# Altium integrated library Analog Devices Switches and Multiplexers Analog Switches.IntLib: 575 symbols (part 20 of 23)
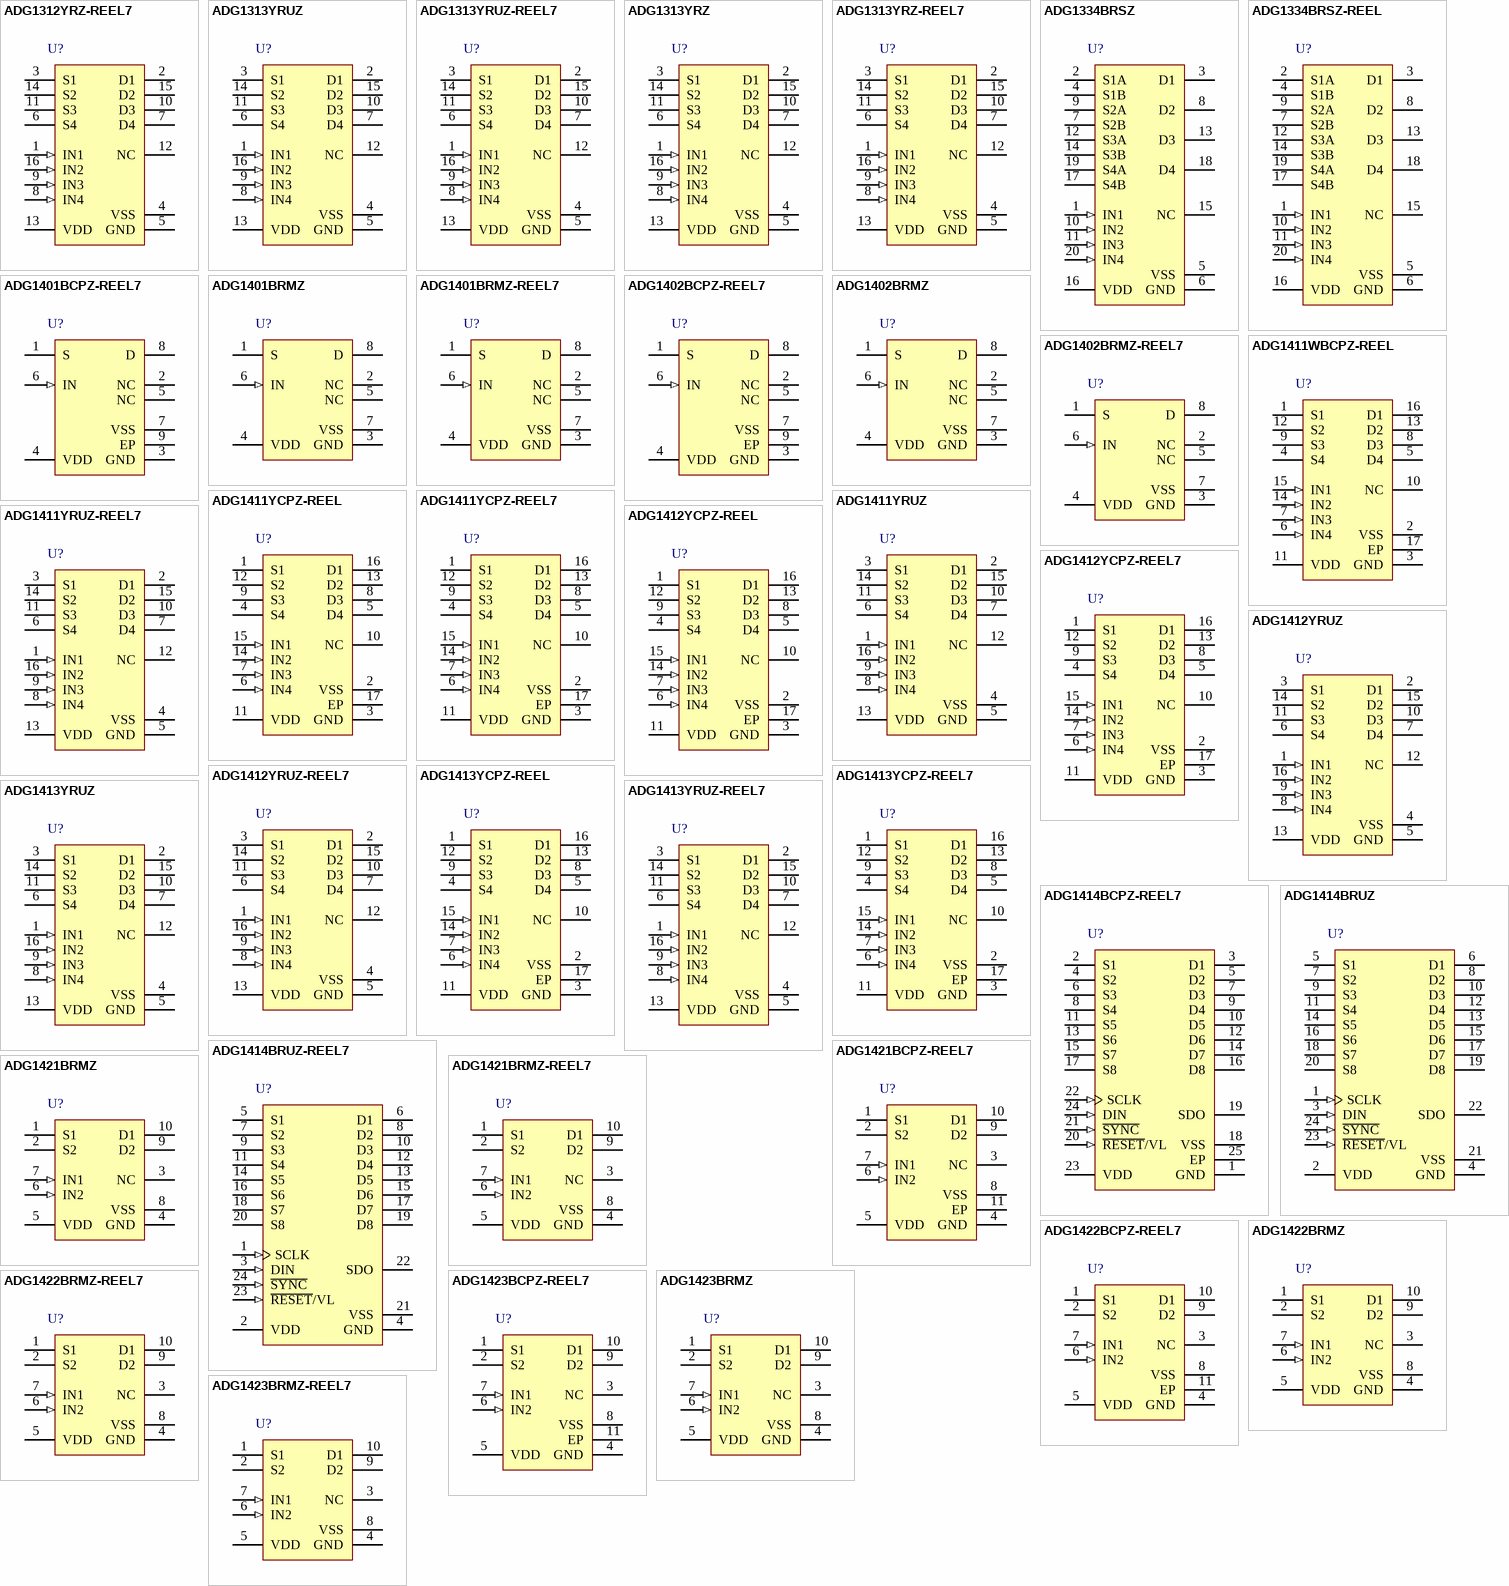
[diagram p34: symbols ADG1312YRZ-REEL7 to ADG1423BRMZ-REEL7]

## ADG1313YRUZ
designator U?
Quad SPST +/-15 V / 12 V Switches, 130 Ohm Ron, 16-pin SOP (RU-16), Tube; Manufacturer: Analog Devices; PartNumber: ADG1313YRUZ; # Sw Functions: 4; Max Neg Supply: -16.5V; Max Pos Supply: +16.5V; Ron (ohms): 130, 325; t ON: 105ns, 120ns; DatasheetVersion: Rev. A; PackageVersion: Nov-02; PackageReference: RU-16; PackageDescription: 16-Pin Thin Shrink Small Outline Package, Body 5 x 4.4 mm, Pitch 0.65 mm; Supplier 1: Digi-Key; Supplier Part Number 1: ADG1313YRUZ-ND; Supplier 2: Farnell; Supplier Part Number 2: 1274174; Supplier 3: Mouser; Supplier Part Number 3: 584-ADG1313YRUZ; Configuration: SPST; Packing: Tube; Mounting Technology: Surface Mount; Code_JEDEC: MO-153AB; ComponentLink1Description: Manufacturer URL; ComponentLink1URL: http://www.analog.com/en/index.html; ComponentLink2Description: Datasheet; ComponentLink2URL: http://www.analog.com/static/imported-files/data_sheets/ADG1311_1312_1313.pdf; ComponentLink3Description: Package Specification; ComponentLink3URL: http:/www.analog.com/static/imported-files/packages/36244347913743854010197452789RU16.pdf
footprint ADI-RU-16_N (SOP, 16-Leads, Body 5x4.4mm, Pitch 0.65mm, IPC Medium Density)
footprint ADI-RU-16_L (SOP, 16-Leads, Body 5x4.4mm, Pitch 0.65mm, IPC High Density)
footprint ADI-RU-16_M (SOP, 16-Leads, Body 5x4.4mm, Pitch 0.65mm, IPC Low Density)
pins: 1 IN1 (in) "Logic Control Input.", 2 D1 "Drain Terminal. Can be an input or output.", 3 S1 "Source Terminal. Can be an input or output.", 4 VSS (power) "Most Negative Power Supply Potential.", 5 GND (power) "Ground (0 V) Reference.", 6 S4 "Source Terminal. Can be an input or output.", 7 D4 "Drain Terminal. Can be an input or output.", 8 IN4 (in) "Logic Control Input.", 9 IN3 (in) "Logic Control Input.", 10 D3 "Drain Terminal. Can be an input or output.", 11 S3 "Source Terminal. Can be an input or output.", 12 NC "No Connection.", 13 VDD (power) "Most Positive Power Supply Potential.", 14 S2 "Source Terminal. Can be an input or output.", 15 D2 "Drain Terminal. Can be an input or output.", 16 IN2 (in) "Logic Control Input."

## ADG1313YRUZ-REEL7
designator U?
Quad SPST +/-15 V / 12 V Switches, 130 Ohm Ron, 16-pin SOP (RU-16), Reel; Manufacturer: Analog Devices; PartNumber: ADG1313YRUZ-REEL7; # Sw Functions: 4; Max Neg Supply: -16.5V; Max Pos Supply: +16.5V; Ron (ohms): 130, 325; t ON: 105ns, 120ns; DatasheetVersion: Rev. A; PackageVersion: Nov-02; PackageReference: RU-16; PackageDescription: 16-Pin Thin Shrink Small Outline Package, Body 5 x 4.4 mm, Pitch 0.65 mm; Supplier 1: Digi-Key; Supplier Part Number 1: ADG1313YRUZ-REEL7-ND; Supplier 2: Mouser; Supplier Part Number 2: 584-ADG1313YRUZ-R7; Configuration: SPST; Packing: Reel; Mounting Technology: Surface Mount; Code_JEDEC: MO-153AB; ComponentLink1Description: Manufacturer URL; ComponentLink1URL: http://www.analog.com/en/index.html; ComponentLink2Description: Datasheet; ComponentLink2URL: http://www.analog.com/static/imported-files/data_sheets/ADG1311_1312_1313.pdf; ComponentLink3Description: Package Specification; ComponentLink3URL: http:/www.analog.com/static/imported-files/packages/36244347913743854010197452789RU16.pdf
footprint ADI-RU-16_N (SOP, 16-Leads, Body 5x4.4mm, Pitch 0.65mm, IPC Medium Density)
footprint ADI-RU-16_L (SOP, 16-Leads, Body 5x4.4mm, Pitch 0.65mm, IPC High Density)
footprint ADI-RU-16_M (SOP, 16-Leads, Body 5x4.4mm, Pitch 0.65mm, IPC Low Density)
pins: 1 IN1 (in) "Logic Control Input.", 2 D1 "Drain Terminal. Can be an input or output.", 3 S1 "Source Terminal. Can be an input or output.", 4 VSS (power) "Most Negative Power Supply Potential.", 5 GND (power) "Ground (0 V) Reference.", 6 S4 "Source Terminal. Can be an input or output.", 7 D4 "Drain Terminal. Can be an input or output.", 8 IN4 (in) "Logic Control Input.", 9 IN3 (in) "Logic Control Input.", 10 D3 "Drain Terminal. Can be an input or output.", 11 S3 "Source Terminal. Can be an input or output.", 12 NC "No Connection.", 13 VDD (power) "Most Positive Power Supply Potential.", 14 S2 "Source Terminal. Can be an input or output.", 15 D2 "Drain Terminal. Can be an input or output.", 16 IN2 (in) "Logic Control Input."

## ADG1313YRZ
designator U?
Quad SPST +/-15 V / 12 V Switches, 130 Ohm Ron, 16-pin SOIC (R-16), Tube; Manufacturer: Analog Devices; PartNumber: ADG1313YRZ; # Sw Functions: 4; Max Neg Supply: -16.5V; Max Pos Supply: +16.5V; Ron (ohms): 130, 325; t ON: 105ns, 120ns; DatasheetVersion: Rev. A; PackageVersion: 060606-A, 06/2006; PackageReference: R-16; PackageDescription: 16-Pin Standard Small Outline Package, Body 9.9 x 3.9 mm, Pitch 1.27 mm; Supplier 1: Digi-Key; Supplier Part Number 1: ADG1313YRZ-ND; Supplier 2: Newark; Supplier Part Number 2: 19M0669; Supplier 3: Mouser; Supplier Part Number 3: 584-ADG1313YRZ; Configuration: SPST; Packing: Tube; Mounting Technology: Surface Mount; Code_JEDEC: MS-012-AC; ComponentLink1Description: Manufacturer URL; ComponentLink1URL: http://www.analog.com/en/index.html; ComponentLink2Description: Datasheet; ComponentLink2URL: http://www.analog.com/static/imported-files/data_sheets/ADG1311_1312_1313.pdf; ComponentLink3Description: Package Specification; ComponentLink3URL: http://www.analog.com/static/imported-files/packages/PKG_PDF/SOIC_Narrow%20(R)/R_16.pdf
footprint ADI-R-16_N (SOIC, 16-Leads, Body 9.9x3.9mm, Pitch 1.27mm, IPC Medium Density)
footprint ADI-R-16_L (SOIC, 16-Leads, Body 9.9x3.9mm, Pitch 1.27mm, IPC High Density)
footprint ADI-R-16_M (SOIC, 16-Leads, Body 9.9x3.9mm, Pitch 1.27mm, IPC Low Density)
pins: 1 IN1 (in) "Logic Control Input.", 2 D1 "Drain Terminal. Can be an input or output.", 3 S1 "Source Terminal. Can be an input or output.", 4 VSS (power) "Most Negative Power Supply Potential.", 5 GND (power) "Ground (0 V) Reference.", 6 S4 "Source Terminal. Can be an input or output.", 7 D4 "Drain Terminal. Can be an input or output.", 8 IN4 (in) "Logic Control Input.", 9 IN3 (in) "Logic Control Input.", 10 D3 "Drain Terminal. Can be an input or output.", 11 S3 "Source Terminal. Can be an input or output.", 12 NC "No Connection.", 13 VDD (power) "Most Positive Power Supply Potential.", 14 S2 "Source Terminal. Can be an input or output.", 15 D2 "Drain Terminal. Can be an input or output.", 16 IN2 (in) "Logic Control Input."

## ADG1313YRZ-REEL7
designator U?
Quad SPST +/-15 V / 12 V Switches, 130 Ohm Ron, 16-pin SOIC (R-16), Reel; Manufacturer: Analog Devices; PartNumber: ADG1313YRZ-REEL7; # Sw Functions: 4; Max Neg Supply: -16.5V; Max Pos Supply: +16.5V; Ron (ohms): 130, 325; t ON: 105ns, 120ns; DatasheetVersion: Rev. A; PackageVersion: 060606-A, 06/2006; PackageReference: R-16; PackageDescription: 16-Pin Standard Small Outline Package, Body 9.9 x 3.9 mm, Pitch 1.27 mm; Supplier 1: Digi-Key; Supplier Part Number 1: ADG1313YRZ-REEL7-ND; Supplier 2: Mouser; Supplier Part Number 2: 584-ADG1313YRZ-R7; Configuration: SPST; Packing: Reel; Mounting Technology: Surface Mount; Code_JEDEC: MS-012-AC; ComponentLink1Description: Manufacturer URL; ComponentLink1URL: http://www.analog.com/en/index.html; ComponentLink2Description: Datasheet; ComponentLink2URL: http://www.analog.com/static/imported-files/data_sheets/ADG1311_1312_1313.pdf; ComponentLink3Description: Package Specification; ComponentLink3URL: http://www.analog.com/static/imported-files/packages/PKG_PDF/SOIC_Narrow%20(R)/R_16.pdf
footprint ADI-R-16_N (SOIC, 16-Leads, Body 9.9x3.9mm, Pitch 1.27mm, IPC Medium Density)
footprint ADI-R-16_L (SOIC, 16-Leads, Body 9.9x3.9mm, Pitch 1.27mm, IPC High Density)
footprint ADI-R-16_M (SOIC, 16-Leads, Body 9.9x3.9mm, Pitch 1.27mm, IPC Low Density)
pins: 1 IN1 (in) "Logic Control Input.", 2 D1 "Drain Terminal. Can be an input or output.", 3 S1 "Source Terminal. Can be an input or output.", 4 VSS (power) "Most Negative Power Supply Potential.", 5 GND (power) "Ground (0 V) Reference.", 6 S4 "Source Terminal. Can be an input or output.", 7 D4 "Drain Terminal. Can be an input or output.", 8 IN4 (in) "Logic Control Input.", 9 IN3 (in) "Logic Control Input.", 10 D3 "Drain Terminal. Can be an input or output.", 11 S3 "Source Terminal. Can be an input or output.", 12 NC "No Connection.", 13 VDD (power) "Most Positive Power Supply Potential.", 14 S2 "Source Terminal. Can be an input or output.", 15 D2 "Drain Terminal. Can be an input or output.", 16 IN2 (in) "Logic Control Input."

## ADG1334BRSZ
designator U?
Quad SPDT +/-15 V / 12 V Switches, 130 Ohm Ron, 20-pin SOP (RS-20), Tube; Manufacturer: Analog Devices; PartNumber: ADG1334BRSZ; # Sw Functions: 4; Max Neg Supply: -16.5V; Max Pos Supply: +16.5V; Ron (ohms): 130, 325; t ON: 110ns, 135ns; DatasheetVersion: Rev. 0; PackageVersion: Mar-03; PackageReference: RS-20; PackageDescription: 20-Pin Shrink Small Outline Package, Body 7.2 x 5.3 mm, Pitch 0.65 mm; Supplier 1: Digi-Key; Supplier Part Number 1: ADG1334BRSZ-ND; Supplier 2: Newark; Supplier Part Number 2: 23M1193; Supplier 3: Mouser; Supplier Part Number 3: 584-ADG1334BRSZ; Configuration: SPDT; Packing: Tube; Mounting Technology: Surface Mount; Code_JEDEC: MO-150AE; ComponentLink1Description: Manufacturer URL; ComponentLink1URL: http://www.analog.com/en/index.html; ComponentLink2Description: Datasheet; ComponentLink2URL: http://www.analog.com/static/imported-files/data_sheets/ADG1334.pdf; ComponentLink3Description: Package Specification; ComponentLink3URL: http://www.analog.com/static/imported-files/packages/318405805657546556503576154334802686596RS_20.pdf
footprint ADI-RS-20_N (SOP, 20-Leads, Body 7.2x5.3mm, Pitch 0.65mm, IPC Medium Density)
footprint ADI-RS-20_L (SOP, 20-Leads, Body 7.2x5.3mm, Pitch 0.65mm, IPC High Density)
footprint ADI-RS-20_M (SOP, 20-Leads, Body 7.2x5.3mm, Pitch 0.65mm, IPC Low Density)
pins: 1 IN1 (in) "Logic Control Input.", 2 S1A "Source Terminal. Can be an input or output.", 3 D1 "Drain Terminal. Can be an input or output.", 4 S1B "Source Terminal. Can be an input or output.", 5 VSS (power) "Most Negative Power Supply Potential in Dual Supplies. In  single-supply applications, it can be connected to ground.", 6 GND (power) "Ground (0 V) Reference.", 7 S2B "Source Terminal. Can be an input or output.", 8 D2 "Drain Terminal. Can be an input or output.", 9 S2A "Source Terminal. Can be an input or output.", 10 IN2 (in) "Logic Control Input.", 11 IN3 (in) "Logic Control Input.", 12 S3A "Source Terminal. Can be an input or output.", 13 D3 "Drain Terminal. Can be an input or output.", 14 S3B "Source Terminal. Can be an input or output.", 15 NC "No Connect.", 16 VDD (power) "Most Positive Power Supply Potential.", 17 S4B "Source Terminal. Can be an input or output.", 18 D4 "Drain Terminal. Can be an input or output.", 19 S4A "Source Terminal. Can be an input or output.", 20 IN4 (in) "Logic Control Input."

## ADG1334BRSZ-REEL
designator U?
Quad SPDT +/-15 V / 12 V Switches, 130 Ohm Ron, 20-pin SOP (RS-20), Reel; Manufacturer: Analog Devices; PartNumber: ADG1334BRSZ-REEL; # Sw Functions: 4; Max Neg Supply: -16.5V; Max Pos Supply: +16.5V; Ron (ohms): 130, 325; t ON: 110ns, 135ns; DatasheetVersion: Rev. 0; PackageVersion: Mar-03; PackageReference: RS-20; PackageDescription: 20-Pin Shrink Small Outline Package, Body 7.2 x 5.3 mm, Pitch 0.65 mm; Supplier 1: Digi-Key; Supplier Part Number 1: ADG1334BRSZ-REEL-ND; Supplier 2: Mouser; Supplier Part Number 2: 584-ADG1334BRSZ-R; Configuration: SPDT; Packing: Reel; Mounting Technology: Surface Mount; Code_JEDEC: MO-150AE; ComponentLink1Description: Manufacturer URL; ComponentLink1URL: http://www.analog.com/en/index.html; ComponentLink2Description: Datasheet; ComponentLink2URL: http://www.analog.com/static/imported-files/data_sheets/ADG1334.pdf; ComponentLink3Description: Package Specification; ComponentLink3URL: http://www.analog.com/static/imported-files/packages/318405805657546556503576154334802686596RS_20.pdf
footprint ADI-RS-20_N (SOP, 20-Leads, Body 7.2x5.3mm, Pitch 0.65mm, IPC Medium Density)
footprint ADI-RS-20_L (SOP, 20-Leads, Body 7.2x5.3mm, Pitch 0.65mm, IPC High Density)
footprint ADI-RS-20_M (SOP, 20-Leads, Body 7.2x5.3mm, Pitch 0.65mm, IPC Low Density)
pins: 1 IN1 (in) "Logic Control Input.", 2 S1A "Source Terminal. Can be an input or output.", 3 D1 "Drain Terminal. Can be an input or output.", 4 S1B "Source Terminal. Can be an input or output.", 5 VSS (power) "Most Negative Power Supply Potential in Dual Supplies. In  single-supply applications, it can be connected to ground.", 6 GND (power) "Ground (0 V) Reference.", 7 S2B "Source Terminal. Can be an input or output.", 8 D2 "Drain Terminal. Can be an input or output.", 9 S2A "Source Terminal. Can be an input or output.", 10 IN2 (in) "Logic Control Input.", 11 IN3 (in) "Logic Control Input.", 12 S3A "Source Terminal. Can be an input or output.", 13 D3 "Drain Terminal. Can be an input or output.", 14 S3B "Source Terminal. Can be an input or output.", 15 NC "No Connect.", 16 VDD (power) "Most Positive Power Supply Potential.", 17 S4B "Source Terminal. Can be an input or output.", 18 D4 "Drain Terminal. Can be an input or output.", 19 S4A "Source Terminal. Can be an input or output.", 20 IN4 (in) "Logic Control Input."

## ADG1401BCPZ-REEL7
designator U?
1 Ohm Ron, +/-15 V / +12 V / +/-5 V iCMOS SPST Switch, -40 to 125 degC, 8-pin SON (CP-8-4), Reel; Manufacturer: Analog Devices; PartNumber: ADG1401BCPZ-REEL7; Id, Is (ON): 200pA, 200pA, 100pA; Is OFF: 50pA, 50pA, 20pA; Power Dissipation: 1.44 mW; Ron (ohms): 1; DatasheetVersion: Rev. 0; PackageVersion: 081806-A, 08/2006; PackageReference: CP-8-4; PackageDescription: 8-Pin Lead Frame Chip Scale Package, Body 3 x 2 mm, Pitch 0.5 mm; Supplier 1: Digi-Key; Supplier Part Number 1: ADG1401BCPZ-REEL7TR-ND; Supplier 2: Digi-Key; Supplier Part Number 2: ADG1401BCPZ-REEL7CT-ND; Supplier 3: Digi-Key; Supplier Part Number 3: ADG1401BCPZ-REEL7DKR-ND; Supplier 4: Farnell; Supplier Part Number 4: 2312933; Supplier 5: Newark; Supplier Part Number 5: 58R3863; Supplier 6: Newark; Supplier Part Number 6: 67W3114; Supplier 7: Mouser; Supplier Part Number 7: 584-ADG1401BCPZ-R7; Configuration: SPST; Packing: Reel; Mounting Technology: Surface Mount; ComponentLink1Description: Manufacturer URL; ComponentLink1URL: http://www.analog.com/en/index.html; ComponentLink2Description: Datasheet; ComponentLink2URL: http://www.analog.com/static/imported-files/data_sheets/ADG1401_1402.pdf; ComponentLink3Description: Package Specification; ComponentLink3URL: http://www.analog.com/static/imported-files/packages/57080735642908CP_8_4.pdf
footprint ADI-CP-8-4_V (SON, 8-Leads, Body 3x2mm, Pitch 0.5mm, Thermal Pad 1.75x1.9mm)
pins: 1 S "Source Terminal. This pin can be an input or output.", 2 NC "No Connect.", 3 GND (power) "Ground (0 V) Reference.", 4 VDD (power) "Most Positive Power Supply Potential.", 5 NC "No Connect.", 6 IN (in) "Logic Control Input.", 7 VSS (power) "Most Negative Power Supply Potential.", 8 D "Drain Terminal. This pin can be an input or output.", 9 EP (power) "Exposed pad tied to substrate, VSS, for LFCSP package."

## ADG1401BRMZ
designator U?
1 Ohm Ron, +/-15 V / +12 V / +/-5 V iCMOS SPST Switch, -40 to 125 degC, 8-pin SOP (RM-8), Tube; Manufacturer: Analog Devices; PartNumber: ADG1401BRMZ; # Sw Functions: 1; Id, Is (ON): 200pA, 200pA, 100pA; Is OFF: 50pA, 50pA, 20pA; Power Dissipation: 1.44mW; DatasheetVersion: Rev. 0; PackageVersion: Aug-05; PackageReference: RM-8; PackageDescription: 8-Pin Mini Small Outline Package, Body 3 x 3 mm, Pitch 0.65 mm; Supplier 1: Digi-Key; Supplier Part Number 1: ADG1401BRMZ-ND; Supplier 2: Farnell; Supplier Part Number 2: 2102531; Supplier 3: Newark; Supplier Part Number 3: 94T5605; Supplier 4: Newark; Supplier Part Number 4: 52R8027; Supplier 5: Mouser; Supplier Part Number 5: 584-ADG1401BRMZ; Configuration: SPST; Packing: Tube; Ron (ohms): 1; Mounting Technology: Surface Mount; Code_JEDEC: MO-187-AA; ComponentLink1Description: Manufacturer URL; ComponentLink1URL: http://www.analog.com/en/index.html; ComponentLink2Description: Datasheet; ComponentLink2URL: http://www.analog.com/static/imported-files/data_sheets/ADG1401_1402.pdf; ComponentLink3Description: Package Specification; ComponentLink3URL: http://www.analog.com/static/imported-files/packages/PKG_PDF/MSOP%28RM%29/RM_8.pdf
footprint ADI-RM-8_N (SOP, 8-Leads, Body 3x3mm, Pitch 0.65mm, IPC Medium Density)
footprint ADI-RM-8_L (SOP, 8-Leads, Body 3x3mm, Pitch 0.65mm, IPC High Density)
footprint ADI-RM-8_M (SOP, 8-Leads, Body 3x3mm, Pitch 0.65mm, IPC Low Density)
pins: 1 S "Source Terminal. This pin can be an input or output.", 2 NC "No Connect.", 3 GND (power) "Ground (0 V) Reference.", 4 VDD (power) "Most Positive Power Supply Potential.", 5 NC "No Connect.", 6 IN (in) "Logic Control Input.", 7 VSS (power) "Most Negative Power Supply Potential.", 8 D "Drain Terminal. This pin can be an input or output."

## ADG1401BRMZ-REEL7
designator U?
1 Ohm Ron, +/-15 V / +12 V / +/-5 V iCMOS SPST Switch, -40 to 125 degC, 8-pin SOP (RM-8), Reel; Manufacturer: Analog Devices; PartNumber: ADG1401BRMZ-REEL7; # Sw Functions: 1; Id, Is (ON): 200pA, 200pA, 100pA; Is OFF: 50pA, 50pA, 20pA; Power Dissipation: 1.44mW; DatasheetVersion: Rev. 0; PackageVersion: Aug-05; PackageReference: RM-8; PackageDescription: 8-Pin Mini Small Outline Package, Body 3 x 3 mm, Pitch 0.65 mm; Supplier 1: Digi-Key; Supplier Part Number 1: ADG1401BRMZ-REEL7-ND; Supplier 2: Newark; Supplier Part Number 2: 52R8028; Supplier 3: Mouser; Supplier Part Number 3: 584-ADG1401BRMZ-R7; Configuration: SPST; Packing: Reel; Ron (ohms): 1; Mounting Technology: Surface Mount; Code_JEDEC: MO-187-AA; ComponentLink1Description: Manufacturer URL; ComponentLink1URL: http://www.analog.com/en/index.html; ComponentLink2Description: Datasheet; ComponentLink2URL: http://www.analog.com/static/imported-files/data_sheets/ADG1401_1402.pdf; ComponentLink3Description: Package Specification; ComponentLink3URL: http://www.analog.com/static/imported-files/packages/PKG_PDF/MSOP%28RM%29/RM_8.pdf
footprint ADI-RM-8_N (SOP, 8-Leads, Body 3x3mm, Pitch 0.65mm, IPC Medium Density)
footprint ADI-RM-8_L (SOP, 8-Leads, Body 3x3mm, Pitch 0.65mm, IPC High Density)
footprint ADI-RM-8_M (SOP, 8-Leads, Body 3x3mm, Pitch 0.65mm, IPC Low Density)
pins: 1 S "Source Terminal. This pin can be an input or output.", 2 NC "No Connect.", 3 GND (power) "Ground (0 V) Reference.", 4 VDD (power) "Most Positive Power Supply Potential.", 5 NC "No Connect.", 6 IN (in) "Logic Control Input.", 7 VSS (power) "Most Negative Power Supply Potential.", 8 D "Drain Terminal. This pin can be an input or output."

## ADG1402BCPZ-REEL7
designator U?
1 Ohm Ron, +/-15 V / +12 V / +/-5 V iCMOS SPST Switch, -40 to 125 degC, 8-pin SON (CP-8-4), Reel; Manufacturer: Analog Devices; PartNumber: ADG1402BCPZ-REEL7; # Sw Functions: 1; Id, Is (ON): 200pA, 200pA, 100pA; Is OFF: 50pA, 50pA, 20pA; Power Dissipation: 1.44mW; DatasheetVersion: Rev. 0; PackageVersion: 081806-A, 08/2006; PackageReference: CP-8-4; PackageDescription: 8-Pin Lead Frame Chip Scale Package, Body 3 x 2 mm, Pitch 0.5 mm; Supplier 1: Digi-Key; Supplier Part Number 1: ADG1402BCPZ-REEL7TR-ND; Supplier 2: Digi-Key; Supplier Part Number 2: ADG1402BCPZ-REEL7CT-ND; Supplier 3: Digi-Key; Supplier Part Number 3: ADG1402BCPZ-REEL7DKR-ND; Supplier 4: Mouser; Supplier Part Number 4: 584-ADG1402BCPZ-R7; Configuration: SPST; Packing: Reel; Ron (ohms): 1; Mounting Technology: Surface Mount; ComponentLink1Description: Manufacturer URL; ComponentLink1URL: http://www.analog.com/en/index.html; ComponentLink2Description: Datasheet; ComponentLink2URL: http://www.analog.com/static/imported-files/data_sheets/ADG1401_1402.pdf; ComponentLink3Description: Package Specification; ComponentLink3URL: http://www.analog.com/static/imported-files/packages/57080735642908CP_8_4.pdf
footprint ADI-CP-8-4_V (SON, 8-Leads, Body 3x2mm, Pitch 0.5mm, Thermal Pad 1.75x1.9mm)
pins: 1 S "Source Terminal. This pin can be an input or output.", 2 NC "No Connect.", 3 GND (power) "Ground (0 V) Reference.", 4 VDD (power) "Most Positive Power Supply Potential.", 5 NC "No Connect.", 6 IN (in) "Logic Control Input.", 7 VSS (power) "Most Negative Power Supply Potential.", 8 D "Drain Terminal. This pin can be an input or output.", 9 EP (power) "Exposed pad tied to substrate, VSS, for LFCSP package."

## ADG1402BRMZ
designator U?
1 Ohm Ron, +/-15 V / +12 V / +/-5 V iCMOS SPST Switch, -40 to 125 degC, 8-pin SOP (RM-8), Tube; Manufacturer: Analog Devices; PartNumber: ADG1402BRMZ; # Sw Functions: 1; Id, Is (ON): 200pA, 200pA, 100pA; Is OFF: 50pA, 50pA, 20pA; Power Dissipation: 1.44mW; DatasheetVersion: Rev. 0; PackageVersion: Aug-05; PackageReference: RM-8; PackageDescription: 8-Pin Mini Small Outline Package, Body 3 x 3 mm, Pitch 0.65 mm; Supplier 1: Digi-Key; Supplier Part Number 1: ADG1402BRMZ-ND; Supplier 2: Farnell; Supplier Part Number 2: 2317347; Supplier 3: Newark; Supplier Part Number 3: 52R8029; Supplier 4: Mouser; Supplier Part Number 4: 584-ADG1402BRMZ; Configuration: SPST; Packing: Tube; Ron (ohms): 1; Mounting Technology: Surface Mount; Code_JEDEC: MO-187-AA; ComponentLink1Description: Manufacturer URL; ComponentLink1URL: http://www.analog.com/en/index.html; ComponentLink2Description: Datasheet; ComponentLink2URL: http://www.analog.com/static/imported-files/data_sheets/ADG1401_1402.pdf; ComponentLink3Description: Package Specification; ComponentLink3URL: http://www.analog.com/static/imported-files/packages/PKG_PDF/MSOP%28RM%29/RM_8.pdf
footprint ADI-RM-8_N (SOP, 8-Leads, Body 3x3mm, Pitch 0.65mm, IPC Medium Density)
footprint ADI-RM-8_L (SOP, 8-Leads, Body 3x3mm, Pitch 0.65mm, IPC High Density)
footprint ADI-RM-8_M (SOP, 8-Leads, Body 3x3mm, Pitch 0.65mm, IPC Low Density)
pins: 1 S "Source Terminal. This pin can be an input or output.", 2 NC "No Connect.", 3 GND (power) "Ground (0 V) Reference.", 4 VDD (power) "Most Positive Power Supply Potential.", 5 NC "No Connect.", 6 IN (in) "Logic Control Input.", 7 VSS (power) "Most Negative Power Supply Potential.", 8 D "Drain Terminal. This pin can be an input or output."

## ADG1402BRMZ-REEL7
designator U?
1 Ohm Ron, +/-15 V / +12 V / +/-5 V iCMOS SPST Switch, -40 to 125 degC, 8-pin SOP (RM-8), Reel; Manufacturer: Analog Devices; PartNumber: ADG1402BRMZ-REEL7; # Sw Functions: 1; Id, Is (ON): 200pA, 200pA, 100pA; Is OFF: 50pA, 50pA, 20pA; Power Dissipation: 1.44mW; DatasheetVersion: Rev. 0; PackageVersion: Aug-05; PackageReference: RM-8; PackageDescription: 8-Pin Mini Small Outline Package, Body 3 x 3 mm, Pitch 0.65 mm; Supplier 1: Digi-Key; Supplier Part Number 1: ADG1402BRMZ-REEL7-ND; Supplier 2: Newark; Supplier Part Number 2: 52R8030; Supplier 3: Mouser; Supplier Part Number 3: 584-ADG1402BRMZ-R7; Configuration: SPST; Packing: Reel; Ron (ohms): 1; Mounting Technology: Surface Mount; Code_JEDEC: MO-187-AA; ComponentLink1Description: Manufacturer URL; ComponentLink1URL: http://www.analog.com/en/index.html; ComponentLink2Description: Datasheet; ComponentLink2URL: http://www.analog.com/static/imported-files/data_sheets/ADG1401_1402.pdf; ComponentLink3Description: Package Specification; ComponentLink3URL: http://www.analog.com/static/imported-files/packages/PKG_PDF/MSOP%28RM%29/RM_8.pdf
footprint ADI-RM-8_N (SOP, 8-Leads, Body 3x3mm, Pitch 0.65mm, IPC Medium Density)
footprint ADI-RM-8_L (SOP, 8-Leads, Body 3x3mm, Pitch 0.65mm, IPC High Density)
footprint ADI-RM-8_M (SOP, 8-Leads, Body 3x3mm, Pitch 0.65mm, IPC Low Density)
pins: 1 S "Source Terminal. This pin can be an input or output.", 2 NC "No Connect.", 3 GND (power) "Ground (0 V) Reference.", 4 VDD (power) "Most Positive Power Supply Potential.", 5 NC "No Connect.", 6 IN (in) "Logic Control Input.", 7 VSS (power) "Most Negative Power Supply Potential.", 8 D "Drain Terminal. This pin can be an input or output."

## ADG1411WBCPZ-REEL
designator U?
1.5 Ohm on Resistance, +/-15 V / +12 V / +/-5 V, iCMOS, Quad SPST Switch, -40 to 125 degC, 16-pin QFN (CP-16-13), Reel; Manufacturer: Analog Devices; PartNumber: ADG1411WBCPZ-REEL; Id, Is (ON): 150pA, 150pA, 50pA; Is OFF: 30pA, 20pA, 30pA; Power Dissipation: 4.97mW; Ron (ohms): 1.5; DatasheetVersion: Rev. B; PackageVersion: 031006-A, 06/2006; PackageReference: CP-16-13; PackageDescription: 16-Pin Lead Frame Chip Scale Package, Body 4 x 4 mm, Pitch 0.65 mm; Supplier 1: Digi-Key; Supplier Part Number 1: ADG1411WBCPZ-REELTR-ND; Supplier 2: Digi-Key; Supplier Part Number 2: ADG1411WBCPZ-REELCT-ND; Supplier 3: Digi-Key; Supplier Part Number 3: ADG1411WBCPZ-REELDKR-ND; Supplier 4: Mouser; Supplier Part Number 4: 584-ADG1411WBCPZ-R; Configuration: SPST; Packing: Reel; Mounting Technology: Surface Mount; Code_JEDEC: MO-220-VGGC.; ComponentLink1Description: Manufacturer URL; ComponentLink1URL: http://www.analog.com/en/index.html; ComponentLink2Description: Datasheet; ComponentLink2URL: http://www.analog.com/static/imported-files/data_sheets/ADG1411_1412_1413.pdf; ComponentLink3Description: Package Specification; ComponentLink3URL: http://www.analog.com/static/imported-files/packages/PKG_PDF/LFCSP(CP)/CP-16/CP_16_13.pdf
footprint ADI-CP-16-13_N (QFN, 16-Leads, Body 4x4mm, Pitch 0.65mm, Thermal Pad 2.5x2.5mm, IPC Medium Density)
footprint ADI-CP-16-13_L (QFN, 16-Leads, Body 4x4mm, Pitch 0.65mm, Thermal Pad 2.5x2.5mm, IPC High Density)
footprint ADI-CP-16-13_M (QFN, 16-Leads, Body 4x4mm, Pitch 0.65mm, Thermal Pad 2.5x2.5mm, IPC Low Density)
pins: 1 S1 "Source Terminal. This pin can be an input or output.", 2 VSS (power) "Most Negative Power Supply Potential.", 3 GND (power) "Ground (0 V) Reference.", 4 S4 "Source Terminal. This pin can be an input or output.", 5 D4 "Drain Terminal. This pin can be an input or output.", 6 IN4 (in) "Logic Control Input.", 7 IN3 (in) "Logic Control Input.", 8 D3 "Drain Terminal. This pin can be an input or output.", 9 S3 "Source Terminal. This pin can be an input or output.", 10 NC "No Connection.", 11 VDD (power) "Most Positive Power Supply Potential.", 12 S2 "Source Terminal. This pin can be an input or output.", 13 D2 "Drain Terminal. This pin can be an input or output.", 14 IN2 (in) "Logic Control Input.", 15 IN1 (in) "Logic Control Input.", 16 D1 "Drain Terminal. This pin can be an input or output.", 17 EP (power) "Exposed Pad. Tie the exposed pad to the substrate, VSS."

## ADG1411YCPZ-REEL
designator U?
1.5 Ohm on Resistance, +/-15 V / +12 V / +/-5 V, iCMOS, Quad SPST Switch, 16-pin QFN (CP-16-13), Reel; Manufacturer: Analog Devices; PartNumber: ADG1411YCPZ-REEL; Id, Is (ON): 150pA, 150pA, 50pA; Is OFF: 30pA, 20pA, 30pA; Power Dissipation: 4.97mW; Ron (ohms): 1.5; DatasheetVersion: Rev. B; PackageVersion: 031006-A, 06/2006; PackageReference: CP-16-13; PackageDescription: 16-Pin Lead Frame Chip Scale Package, Body 4 x 4 mm, Pitch 0.65 mm; Supplier 1: Digi-Key; Supplier Part Number 1: ADG1411YCPZ-REEL-ND; Supplier 2: Mouser; Supplier Part Number 2: 584-ADG1411YCPZ-R; Configuration: SPST; Packing: Reel; Mounting Technology: Surface Mount; Code_JEDEC: MO-220-VGGC.; ComponentLink1Description: Manufacturer URL; ComponentLink1URL: http://www.analog.com/en/index.html; ComponentLink2Description: Datasheet; ComponentLink2URL: http://www.analog.com/static/imported-files/data_sheets/ADG1411_1412_1413.pdf; ComponentLink3Description: Package Specification; ComponentLink3URL: http://www.analog.com/static/imported-files/packages/PKG_PDF/LFCSP(CP)/CP-16/CP_16_13.pdf
footprint ADI-CP-16-13_N (QFN, 16-Leads, Body 4x4mm, Pitch 0.65mm, Thermal Pad 2.5x2.5mm, IPC Medium Density)
footprint ADI-CP-16-13_L (QFN, 16-Leads, Body 4x4mm, Pitch 0.65mm, Thermal Pad 2.5x2.5mm, IPC High Density)
footprint ADI-CP-16-13_M (QFN, 16-Leads, Body 4x4mm, Pitch 0.65mm, Thermal Pad 2.5x2.5mm, IPC Low Density)
pins: 1 S1 "Source Terminal. This pin can be an input or output.", 2 VSS (power) "Most Negative Power Supply Potential.", 3 GND (power) "Ground (0 V) Reference.", 4 S4 "Source Terminal. This pin can be an input or output.", 5 D4 "Drain Terminal. This pin can be an input or output.", 6 IN4 (in) "Logic Control Input.", 7 IN3 (in) "Logic Control Input.", 8 D3 "Drain Terminal. This pin can be an input or output.", 9 S3 "Source Terminal. This pin can be an input or output.", 10 NC "No Connection.", 11 VDD (power) "Most Positive Power Supply Potential.", 12 S2 "Source Terminal. This pin can be an input or output.", 13 D2 "Drain Terminal. This pin can be an input or output.", 14 IN2 (in) "Logic Control Input.", 15 IN1 (in) "Logic Control Input.", 16 D1 "Drain Terminal. This pin can be an input or output.", 17 EP (power) "Exposed Pad. Tie the exposed pad to the substrate, VSS."

## ADG1411YCPZ-REEL7
designator U?
1.5 Ohm on Resistance, +/-15 V / +12 V / +/-5 V, iCMOS, Quad SPST Switch, 16-pin QFN (CP-16-13), Reel; Manufacturer: Analog Devices; PartNumber: ADG1411YCPZ-REEL7; Id, Is (ON): 150pA, 150pA, 50pA; Is OFF: 30pA, 20pA, 30pA; Power Dissipation: 4.97mW; Ron (ohms): 1.5; DatasheetVersion: Rev. B; PackageVersion: 031006-A, 06/2006; PackageReference: CP-16-13; PackageDescription: 16-Pin Lead Frame Chip Scale Package, Body 4 x 4 mm, Pitch 0.65 mm; Supplier 1: Digi-Key; Supplier Part Number 1: ADG1411YCPZ-REEL7TR-ND; Supplier 2: Digi-Key; Supplier Part Number 2: ADG1411YCPZ-REEL7CT-ND; Supplier 3: Digi-Key; Supplier Part Number 3: ADG1411YCPZ-REEL7DKR-ND; Supplier 4: Farnell; Supplier Part Number 4: 2312935; Supplier 5: Newark; Supplier Part Number 5: 19P8187; Supplier 6: Newark; Supplier Part Number 6: 67W3116; Supplier 7: Mouser; Supplier Part Number 7: 584-ADG1411YCPZ-R7; Configuration: SPST; Packing: Reel; Mounting Technology: Surface Mount; Code_JEDEC: MO-220-VGGC.; ComponentLink1Description: Manufacturer URL; ComponentLink1URL: http://www.analog.com/en/index.html; ComponentLink2Description: Datasheet; ComponentLink2URL: http://www.analog.com/static/imported-files/data_sheets/ADG1411_1412_1413.pdf; ComponentLink3Description: Package Specification; ComponentLink3URL: http://www.analog.com/static/imported-files/packages/PKG_PDF/LFCSP(CP)/CP-16/CP_16_13.pdf
footprint ADI-CP-16-13_N (QFN, 16-Leads, Body 4x4mm, Pitch 0.65mm, Thermal Pad 2.5x2.5mm, IPC Medium Density)
footprint ADI-CP-16-13_L (QFN, 16-Leads, Body 4x4mm, Pitch 0.65mm, Thermal Pad 2.5x2.5mm, IPC High Density)
footprint ADI-CP-16-13_M (QFN, 16-Leads, Body 4x4mm, Pitch 0.65mm, Thermal Pad 2.5x2.5mm, IPC Low Density)
pins: 1 S1 "Source Terminal. This pin can be an input or output.", 2 VSS (power) "Most Negative Power Supply Potential.", 3 GND (power) "Ground (0 V) Reference.", 4 S4 "Source Terminal. This pin can be an input or output.", 5 D4 "Drain Terminal. This pin can be an input or output.", 6 IN4 (in) "Logic Control Input.", 7 IN3 (in) "Logic Control Input.", 8 D3 "Drain Terminal. This pin can be an input or output.", 9 S3 "Source Terminal. This pin can be an input or output.", 10 NC "No Connection.", 11 VDD (power) "Most Positive Power Supply Potential.", 12 S2 "Source Terminal. This pin can be an input or output.", 13 D2 "Drain Terminal. This pin can be an input or output.", 14 IN2 (in) "Logic Control Input.", 15 IN1 (in) "Logic Control Input.", 16 D1 "Drain Terminal. This pin can be an input or output.", 17 EP (power) "Exposed Pad. Tie the exposed pad to the substrate, VSS."

## ADG1411YRUZ
designator U?
1.5 Ohm on Resistance, +/-15 V / +12 V / +/-5 V, iCMOS, Quad SPST Switch, 16-pin SOP (RU-16), Tube; Manufacturer: Analog Devices; PartNumber: ADG1411YRUZ; Id, Is (ON): 150pA, 150pA, 50pA; Is OFF: 30pA, 20pA, 30pA; Power Dissipation: 4.97mW; Ron (ohms): 1.5; DatasheetVersion: Rev. B; PackageVersion: Nov-02; PackageReference: RU-16; PackageDescription: 16-Pin Thin Shrink Small Outline Package, Body 5 x 4.4 mm, Pitch 0.65 mm; Supplier 1: Digi-Key; Supplier Part Number 1: ADG1411YRUZ-ND; Supplier 2: Farnell; Supplier Part Number 2: 2376793; Supplier 3: Newark; Supplier Part Number 3: 11N8724; Supplier 4: Mouser; Supplier Part Number 4: 584-ADG1411YRUZ; Configuration: SPST; Packing: Tube; Mounting Technology: Surface Mount; Code_JEDEC: MO-153AB; ComponentLink1Description: Manufacturer URL; ComponentLink1URL: http://www.analog.com/en/index.html; ComponentLink2Description: Datasheet; ComponentLink2URL: http://www.analog.com/static/imported-files/data_sheets/ADG1411_1412_1413.pdf; ComponentLink3Description: Package Specification; ComponentLink3URL: http:/www.analog.com/static/imported-files/packages/36244347913743854010197452789RU16.pdf
footprint ADI-RU-16_N (SOP, 16-Leads, Body 5x4.4mm, Pitch 0.65mm, IPC Medium Density)
footprint ADI-RU-16_L (SOP, 16-Leads, Body 5x4.4mm, Pitch 0.65mm, IPC High Density)
footprint ADI-RU-16_M (SOP, 16-Leads, Body 5x4.4mm, Pitch 0.65mm, IPC Low Density)
pins: 1 IN1 (in) "Logic Control Input.", 2 D1 "Drain Terminal. This pin can be an input or output.", 3 S1 "Source Terminal. This pin can be an input or output.", 4 VSS (power) "Most Negative Power Supply Potential.", 5 GND (power) "Ground (0 V) Reference.", 6 S4 "Source Terminal. This pin can be an input or output.", 7 D4 "Drain Terminal. This pin can be an input or output.", 8 IN4 (in) "Logic Control Input.", 9 IN3 (in) "Logic Control Input.", 10 D3 "Drain Terminal. This pin can be an input or output.", 11 S3 "Source Terminal. This pin can be an input or output.", 12 NC "No Connection.", 13 VDD (power) "Most Positive Power Supply Potential.", 14 S2 "Source Terminal. This pin can be an input or output.", 15 D2 "Drain Terminal. This pin can be an input or output.", 16 IN2 (in) "Logic Control Input."

## ADG1411YRUZ-REEL7
designator U?
1.5 Ohm on Resistance, +/-15 V / +12 V / +/-5 V, iCMOS, Quad SPST Switch, 16-pin SOP (RU-16), Reel; Manufacturer: Analog Devices; PartNumber: ADG1411YRUZ-REEL7; Id, Is (ON): 150pA, 150pA, 50pA; Is OFF: 30pA, 20pA, 30pA; Power Dissipation: 4.97mW; Ron (ohms): 1.5; DatasheetVersion: Rev. B; PackageVersion: Nov-02; PackageReference: RU-16; PackageDescription: 16-Pin Thin Shrink Small Outline Package, Body 5 x 4.4 mm, Pitch 0.65 mm; Supplier 1: Digi-Key; Supplier Part Number 1: ADG1411YRUZ-REEL7-ND; Supplier 2: Newark; Supplier Part Number 2: 19P8188; Supplier 3: Mouser; Supplier Part Number 3: 584-ADG1411YRUZ-R7; Configuration: SPST; Packing: Reel; Mounting Technology: Surface Mount; Code_JEDEC: MO-153AB; ComponentLink1Description: Manufacturer URL; ComponentLink1URL: http://www.analog.com/en/index.html; ComponentLink2Description: Datasheet; ComponentLink2URL: http://www.analog.com/static/imported-files/data_sheets/ADG1411_1412_1413.pdf; ComponentLink3Description: Package Specification; ComponentLink3URL: http:/www.analog.com/static/imported-files/packages/36244347913743854010197452789RU16.pdf
footprint ADI-RU-16_N (SOP, 16-Leads, Body 5x4.4mm, Pitch 0.65mm, IPC Medium Density)
footprint ADI-RU-16_L (SOP, 16-Leads, Body 5x4.4mm, Pitch 0.65mm, IPC High Density)
footprint ADI-RU-16_M (SOP, 16-Leads, Body 5x4.4mm, Pitch 0.65mm, IPC Low Density)
pins: 1 IN1 (in) "Logic Control Input.", 2 D1 "Drain Terminal. This pin can be an input or output.", 3 S1 "Source Terminal. This pin can be an input or output.", 4 VSS (power) "Most Negative Power Supply Potential.", 5 GND (power) "Ground (0 V) Reference.", 6 S4 "Source Terminal. This pin can be an input or output.", 7 D4 "Drain Terminal. This pin can be an input or output.", 8 IN4 (in) "Logic Control Input.", 9 IN3 (in) "Logic Control Input.", 10 D3 "Drain Terminal. This pin can be an input or output.", 11 S3 "Source Terminal. This pin can be an input or output.", 12 NC "No Connection.", 13 VDD (power) "Most Positive Power Supply Potential.", 14 S2 "Source Terminal. This pin can be an input or output.", 15 D2 "Drain Terminal. This pin can be an input or output.", 16 IN2 (in) "Logic Control Input."

## ADG1412YCPZ-REEL
designator U?
1.5 Ohm On Resistance, +/-15 V / +12 V / +/-5 V,iCMOS, Quad SPST Switch, -40 to 125 degC, 16-pin QFN (CP-16-13), Reel; Manufacturer: Analog Devices; PartNumber: ADG1412YCPZ-REEL; Id, Is (ON): 150pA, 150pA, 50pA; Is OFF: 30pA, 20pA, 30pA; Power Dissipation: 4.97mW; Ron (ohms): 1.5; DatasheetVersion: Rev. B; PackageVersion: 031006-A, 06/2006; PackageReference: CP-16-13; PackageDescription: 16-Pin Lead Frame Chip Scale Package, Body 4 x 4 mm, Pitch 0.65 mm; Supplier 1: Digi-Key; Supplier Part Number 1: ADG1412YCPZ-REEL-ND; Supplier 2: Newark; Supplier Part Number 2: 11N8725; Supplier 3: Mouser; Supplier Part Number 3: 584-ADG1412YCPZ-R; Configuration: SPST; Packing: Reel; Mounting Technology: Surface Mount; Code_JEDEC: MO-220-VGGC.; ComponentLink1Description: Manufacturer URL; ComponentLink1URL: http://www.analog.com/en/index.html; ComponentLink2Description: Datasheet; ComponentLink2URL: http://www.analog.com/static/imported-files/data_sheets/ADG1411_1412_1413.pdf; ComponentLink3Description: Package Specification; ComponentLink3URL: http://www.analog.com/static/imported-files/packages/PKG_PDF/LFCSP(CP)/CP-16/CP_16_13.pdf
footprint ADI-CP-16-13_N (QFN, 16-Leads, Body 4x4mm, Pitch 0.65mm, Thermal Pad 2.5x2.5mm, IPC Medium Density)
footprint ADI-CP-16-13_L (QFN, 16-Leads, Body 4x4mm, Pitch 0.65mm, Thermal Pad 2.5x2.5mm, IPC High Density)
footprint ADI-CP-16-13_M (QFN, 16-Leads, Body 4x4mm, Pitch 0.65mm, Thermal Pad 2.5x2.5mm, IPC Low Density)
pins: 1 S1 "Source Terminal. This pin can be an input or output.", 2 VSS (power) "Most Negative Power Supply Potential.", 3 GND (power) "Ground (0 V) Reference.", 4 S4 "Source Terminal. This pin can be an input or output.", 5 D4 "Drain Terminal. This pin can be an input or output.", 6 IN4 (in) "Logic Control Input.", 7 IN3 (in) "Logic Control Input.", 8 D3 "Drain Terminal. This pin can be an input or output.", 9 S3 "Source Terminal. This pin can be an input or output.", 10 NC "No Connection.", 11 VDD (power) "Most Positive Power Supply Potential.", 12 S2 "Source Terminal. This pin can be an input or output.", 13 D2 "Drain Terminal. This pin can be an input or output.", 14 IN2 (in) "Logic Control Input.", 15 IN1 (in) "Logic Control Input.", 16 D1 "Drain Terminal. This pin can be an input or output.", 17 EP (power) "Exposed Pad. Tie the exposed pad to the substrate, VSS."

## ADG1412YCPZ-REEL7
designator U?
1.5 Ohm On Resistance, +/-15 V / +12 V / +/-5 V,iCMOS, Quad SPST Switch, -40 to 125 degC, 16-pin QFN (CP-16-13), Reel; Manufacturer: Analog Devices; PartNumber: ADG1412YCPZ-REEL7; Id, Is (ON): 150pA, 150pA, 50pA; Is OFF: 30pA, 20pA, 30pA; Power Dissipation: 4.97mW; Ron (ohms): 1.5; DatasheetVersion: Rev. B; PackageVersion: 031006-A, 06/2006; PackageReference: CP-16-13; PackageDescription: 16-Pin Lead Frame Chip Scale Package, Body 4 x 4 mm, Pitch 0.65 mm; Supplier 1: Digi-Key; Supplier Part Number 1: ADG1412YCPZ-REEL7TR-ND; Supplier 2: Digi-Key; Supplier Part Number 2: ADG1412YCPZ-REEL7CT-ND; Supplier 3: Digi-Key; Supplier Part Number 3: ADG1412YCPZ-REEL7DKR-ND; Supplier 4: Farnell; Supplier Part Number 4: 2312936; Supplier 5: Newark; Supplier Part Number 5: 19P8189; Supplier 6: Newark; Supplier Part Number 6: 67W3117; Supplier 7: Mouser; Supplier Part Number 7: 584-ADG1412YCPZ-R7; Configuration: SPST; Packing: Reel; Mounting Technology: Surface Mount; Code_JEDEC: MO-220-VGGC.; ComponentLink1Description: Manufacturer URL; ComponentLink1URL: http://www.analog.com/en/index.html; ComponentLink2Description: Datasheet; ComponentLink2URL: http://www.analog.com/static/imported-files/data_sheets/ADG1411_1412_1413.pdf; ComponentLink3Description: Package Specification; ComponentLink3URL: http://www.analog.com/static/imported-files/packages/PKG_PDF/LFCSP(CP)/CP-16/CP_16_13.pdf
footprint ADI-CP-16-13_N (QFN, 16-Leads, Body 4x4mm, Pitch 0.65mm, Thermal Pad 2.5x2.5mm, IPC Medium Density)
footprint ADI-CP-16-13_L (QFN, 16-Leads, Body 4x4mm, Pitch 0.65mm, Thermal Pad 2.5x2.5mm, IPC High Density)
footprint ADI-CP-16-13_M (QFN, 16-Leads, Body 4x4mm, Pitch 0.65mm, Thermal Pad 2.5x2.5mm, IPC Low Density)
pins: 1 S1 "Source Terminal. This pin can be an input or output.", 2 VSS (power) "Most Negative Power Supply Potential.", 3 GND (power) "Ground (0 V) Reference.", 4 S4 "Source Terminal. This pin can be an input or output.", 5 D4 "Drain Terminal. This pin can be an input or output.", 6 IN4 (in) "Logic Control Input.", 7 IN3 (in) "Logic Control Input.", 8 D3 "Drain Terminal. This pin can be an input or output.", 9 S3 "Source Terminal. This pin can be an input or output.", 10 NC "No Connection.", 11 VDD (power) "Most Positive Power Supply Potential.", 12 S2 "Source Terminal. This pin can be an input or output.", 13 D2 "Drain Terminal. This pin can be an input or output.", 14 IN2 (in) "Logic Control Input.", 15 IN1 (in) "Logic Control Input.", 16 D1 "Drain Terminal. This pin can be an input or output.", 17 EP (power) "Exposed Pad. Tie the exposed pad to the substrate, VSS."

## ADG1412YRUZ
designator U?
1.5 Ohm On Resistance, +/-15 V / +12 V / +/-5 V,iCMOS, Quad SPST Switch, -40 to 125 degC, 16-pin SOP (RU-16), Tube; Manufacturer: Analog Devices; PartNumber: ADG1412YRUZ; Id, Is (ON): 150pA, 150pA, 50pA; Is OFF: 30pA, 20pA, 30pA; Power Dissipation: 4.97mW; Ron (ohms): 1.5; DatasheetVersion: Rev. B; PackageVersion: Nov-02; PackageReference: RU-16; PackageDescription: 16-Pin Thin Shrink Small Outline Package, Body 5 x 4.4 mm, Pitch 0.65 mm; Supplier 1: Digi-Key; Supplier Part Number 1: ADG1412YRUZ-ND; Supplier 2: Farnell; Supplier Part Number 2: 2067800; Supplier 3: Newark; Supplier Part Number 3: 11N8726; Supplier 4: Mouser; Supplier Part Number 4: 584-ADG1412YRUZ; Configuration: SPST; Packing: Tube; Mounting Technology: Surface Mount; Code_JEDEC: MO-153AB; ComponentLink1Description: Manufacturer URL; ComponentLink1URL: http://www.analog.com/en/index.html; ComponentLink2Description: Datasheet; ComponentLink2URL: http://www.analog.com/static/imported-files/data_sheets/ADG1411_1412_1413.pdf; ComponentLink3Description: Package Specification; ComponentLink3URL: http:/www.analog.com/static/imported-files/packages/36244347913743854010197452789RU16.pdf
footprint ADI-RU-16_N (SOP, 16-Leads, Body 5x4.4mm, Pitch 0.65mm, IPC Medium Density)
footprint ADI-RU-16_L (SOP, 16-Leads, Body 5x4.4mm, Pitch 0.65mm, IPC High Density)
footprint ADI-RU-16_M (SOP, 16-Leads, Body 5x4.4mm, Pitch 0.65mm, IPC Low Density)
pins: 1 IN1 (in) "Logic Control Input.", 2 D1 "Drain Terminal. This pin can be an input or output", 3 S1 "Source Terminal. This pin can be an input or output.", 4 VSS (power) "Most Negative Power Supply Potential.", 5 GND (power) "Ground (0 V) Reference.", 6 S4 "Source Terminal. This pin can be an input or output.", 7 D4 "Drain Terminal. This pin can be an input or output.", 8 IN4 (in) "Logic Control Input.", 9 IN3 (in) "Logic Control Input.", 10 D3 "Drain Terminal. This pin can be an input or output.", 11 S3 "Source Terminal. This pin can be an input or output.", 12 NC "No Connection.", 13 VDD (power) "Most Positive Power Supply Potential.", 14 S2 "Source Terminal. This pin can be an input or output.", 15 D2 "Drain Terminal. This pin can be an input or output.", 16 IN2 (in) "Logic Control Input."

## ADG1412YRUZ-REEL7
designator U?
1.5 Ohm On Resistance, +/-15 V / +12 V / +/-5 V,iCMOS, Quad SPST Switch, -40 to 125 degC, 16-pin SOP (RU-16), Reel; Manufacturer: Analog Devices; PartNumber: ADG1412YRUZ-REEL7; Id, Is (ON): 150pA, 150pA, 50pA; Is OFF: 30pA, 20pA, 30pA; Power Dissipation: 4.97mW; Ron (ohms): 1.5; DatasheetVersion: Rev. B; PackageVersion: Nov-02; PackageReference: RU-16; PackageDescription: 16-Pin Thin Shrink Small Outline Package, Body 5 x 4.4 mm, Pitch 0.65 mm; Supplier 1: Digi-Key; Supplier Part Number 1: ADG1412YRUZ-REEL7-ND; Supplier 2: Newark; Supplier Part Number 2: 19P8190; Supplier 3: Mouser; Supplier Part Number 3: 584-ADG1412YRUZ-R7; Configuration: SPST; Packing: Reel; Mounting Technology: Surface Mount; Code_JEDEC: MO-153AB; ComponentLink1Description: Manufacturer URL; ComponentLink1URL: http://www.analog.com/en/index.html; ComponentLink2Description: Datasheet; ComponentLink2URL: http://www.analog.com/static/imported-files/data_sheets/ADG1411_1412_1413.pdf; ComponentLink3Description: Package Specification; ComponentLink3URL: http:/www.analog.com/static/imported-files/packages/36244347913743854010197452789RU16.pdf
footprint ADI-RU-16_N (SOP, 16-Leads, Body 5x4.4mm, Pitch 0.65mm, IPC Medium Density)
footprint ADI-RU-16_L (SOP, 16-Leads, Body 5x4.4mm, Pitch 0.65mm, IPC High Density)
footprint ADI-RU-16_M (SOP, 16-Leads, Body 5x4.4mm, Pitch 0.65mm, IPC Low Density)
pins: 1 IN1 (in) "Logic Control Input.", 2 D1 "Drain Terminal. This pin can be an input or output", 3 S1 "Source Terminal. This pin can be an input or output.", 4 VSS (power) "Most Negative Power Supply Potential.", 5 GND (power) "Ground (0 V) Reference.", 6 S4 "Source Terminal. This pin can be an input or output.", 7 D4 "Drain Terminal. This pin can be an input or output.", 8 IN4 (in) "Logic Control Input.", 9 IN3 (in) "Logic Control Input.", 10 D3 "Drain Terminal. This pin can be an input or output.", 11 S3 "Source Terminal. This pin can be an input or output.", 12 NC "No Connection.", 13 VDD (power) "Most Positive Power Supply Potential.", 14 S2 "Source Terminal. This pin can be an input or output.", 15 D2 "Drain Terminal. This pin can be an input or output.", 16 IN2 (in) "Logic Control Input."

## ADG1413YCPZ-REEL
designator U?
1.5 Ohm on Resistance, +/-15 V / 12 V / +/-5 V, iCMOS, Quad SPST Switch, -40 to 125 degC, 16-pin QFN (CP-19-13), Reel; Manufacturer: Analog Devices; PartNumber: ADG1413YCPZ-REEL; Id, Is (ON): 150pA, 150pA, 50pA; Is OFF: 30pA, 20pA, 30pA; Power Dissipation: 4.97mW; Ron (ohms): 1.5; DatasheetVersion: Rev. B; PackageVersion: 031006-A, 06/2006; PackageReference: CP-16-13; PackageDescription: 16-Pin Lead Frame Chip Scale Package, Body 4 x 4 mm, Pitch 0.65 mm; Supplier 1: Digi-Key; Supplier Part Number 1: ADG1413YCPZ-REEL-ND; Supplier 2: Mouser; Supplier Part Number 2: 584-ADG1413YCPZ-R; Configuration: SPST; Packing: Reel; Mounting Technology: Surface Mount; Code_JEDEC: MO-220-VGGC.; ComponentLink1Description: Manufacturer URL; ComponentLink1URL: http://www.analog.com/en/index.html; ComponentLink2Description: Datasheet; ComponentLink2URL: http://www.analog.com/static/imported-files/data_sheets/ADG1411_1412_1413.pdf; ComponentLink3Description: Package Specification; ComponentLink3URL: http://www.analog.com/static/imported-files/packages/PKG_PDF/LFCSP(CP)/CP-16/CP_16_13.pdf
footprint ADI-CP-16-13_N (QFN, 16-Leads, Body 4x4mm, Pitch 0.65mm, Thermal Pad 2.5x2.5mm, IPC Medium Density)
footprint ADI-CP-16-13_L (QFN, 16-Leads, Body 4x4mm, Pitch 0.65mm, Thermal Pad 2.5x2.5mm, IPC High Density)
footprint ADI-CP-16-13_M (QFN, 16-Leads, Body 4x4mm, Pitch 0.65mm, Thermal Pad 2.5x2.5mm, IPC Low Density)
pins: 1 S1 "Source Terminal. This pin can be an input or output.", 2 VSS (power) "Most Negative Power Supply Potential.", 3 GND (power) "Ground (0 V) Reference.", 4 S4 "Source Terminal. This pin can be an input or output.", 5 D4 "Drain Terminal. This pin can be an input or output.", 6 IN4 (in) "Logic Control Input.", 7 IN3 (in) "Logic Control Input.", 8 D3 "Drain Terminal. This pin can be an input or output.", 9 S3 "Source Terminal. This pin can be an input or output.", 10 NC "No Connection.", 11 VDD (power) "Most Positive Power Supply Potential.", 12 S2 "Source Terminal. This pin can be an input or output.", 13 D2 "Drain Terminal. This pin can be an input or output.", 14 IN2 (in) "Logic Control Input.", 15 IN1 (in) "Logic Control Input.", 16 D1 "Drain Terminal. This pin can be an input or output.", 17 EP (power) "Exposed Pad. Tie the exposed pad to the substrate, VSS."

## ADG1413YCPZ-REEL7
designator U?
1.5 Ohm on Resistance, +/-15 V / +12 V / +/-5 V, iCMOS, Quad SPST Switch, 16-pin CSP (CP-16-13), Reel; Manufacturer: Analog Devices; PartNumber: ADG1413YCPZ-REEL7; Id, Is (ON): 150pA, 150pA, 50pA; Is OFF: 30pA, 20pA, 30pA; Power Dissipation: 4.97mW; Ron (ohms): 1.5; DatasheetVersion: Rev. B; PackageVersion: 031006-A, 06/2006; PackageReference: CP-16-13; PackageDescription: 16-Pin Lead Frame Chip Scale Package, Body 4 x 4 mm, Pitch 0.65 mm; Supplier 1: Digi-Key; Supplier Part Number 1: ADG1413YCPZ-REEL7TR-ND; Supplier 2: Digi-Key; Supplier Part Number 2: ADG1413YCPZ-REEL7CT-ND; Supplier 3: Digi-Key; Supplier Part Number 3: ADG1413YCPZ-REEL7DKR-ND; Supplier 4: Farnell; Supplier Part Number 4: 2312937; Supplier 5: Newark; Supplier Part Number 5: 67W3118; Supplier 6: Newark; Supplier Part Number 6: 19P8191; Supplier 7: Mouser; Supplier Part Number 7: 584-ADG1413YCPZ-R7; Configuration: SPST; Packing: Reel; Mounting Technology: Surface Mount; Code_JEDEC: MO-220-VGGC.; ComponentLink1Description: Manufacturer URL; ComponentLink1URL: http://www.analog.com/en/index.html; ComponentLink2Description: Datasheet; ComponentLink2URL: http://www.analog.com/static/imported-files/data_sheets/ADG1411_1412_1413.pdf; ComponentLink3Description: Package Specification; ComponentLink3URL: http://www.analog.com/static/imported-files/packages/PKG_PDF/LFCSP(CP)/CP-16/CP_16_13.pdf
footprint ADI-CP-16-13_N (QFN, 16-Leads, Body 4x4mm, Pitch 0.65mm, Thermal Pad 2.5x2.5mm, IPC Medium Density)
footprint ADI-CP-16-13_L (QFN, 16-Leads, Body 4x4mm, Pitch 0.65mm, Thermal Pad 2.5x2.5mm, IPC High Density)
footprint ADI-CP-16-13_M (QFN, 16-Leads, Body 4x4mm, Pitch 0.65mm, Thermal Pad 2.5x2.5mm, IPC Low Density)
pins: 1 S1 "Source Terminal. This pin can be an input or output.", 2 VSS (power) "Most Negative Power Supply Potential.", 3 GND (power) "Ground (0 V) Reference.", 4 S4 "Source Terminal. This pin can be an input or output.", 5 D4 "Drain Terminal. This pin can be an input or output.", 6 IN4 (in) "Logic Control Input.", 7 IN3 (in) "Logic Control Input.", 8 D3 "Drain Terminal. This pin can be an input or output.", 9 S3 "Source Terminal. This pin can be an input or output.", 10 NC "No Connection.", 11 VDD (power) "Most Positive Power Supply Potential.", 12 S2 "Source Terminal. This pin can be an input or output.", 13 D2 "Drain Terminal. This pin can be an input or output.", 14 IN2 (in) "Logic Control Input.", 15 IN1 (in) "Logic Control Input.", 16 D1 "Drain Terminal. This pin can be an input or output.", 17 EP (power) "Exposed Pad. Tie the exposed pad to the substrate, VSS."